# Altium footprint library WE-OLLT_ETD34_L39.6W43.18H30.48_PAD1.6.PcbLib: 1 footprints
Each footprint in its own frame and in the unit in brackets; x right, y up, seen from the top. Pads: shape width x height; smd on the part's side, far side on the other; paste and mask are expansions set on the pad; w line width, h text height; cw(c..) or ccw(c..) is an arc to the next point about the centre after c.
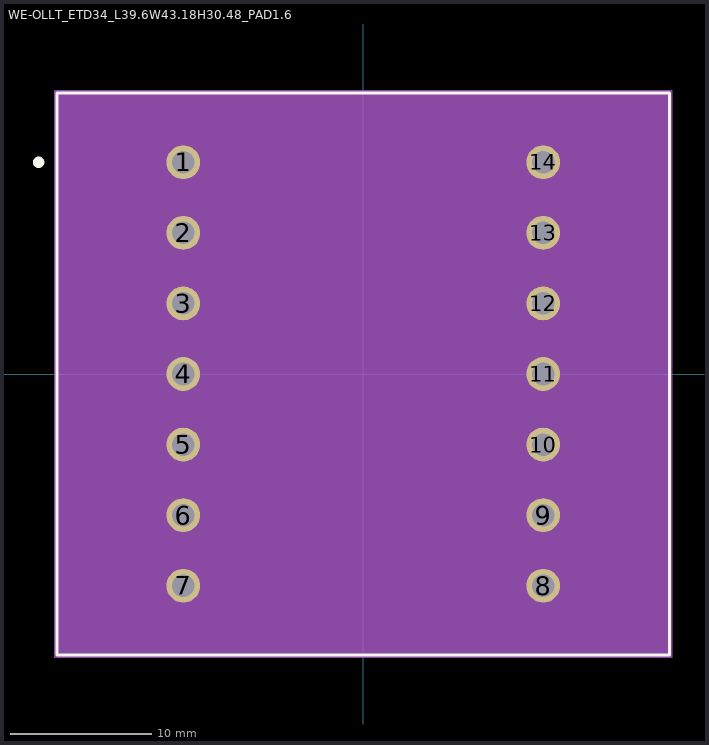
[diagram p0: the footprint, top view; thin cyan lines are the x and y axes]

## WE-OLLT_ETD34_L39.6W43.18H30.48_PAD1.6 [mm]
pads (14):
  round 2.4 hole 1.6 mask+0.102: 1(-12.75,15) 2(-12.75,10) 3(-12.75,5) 4(-12.75,0) 5(-12.75,-5) 6(-12.75,-10) 7(-12.75,-15) 8(12.75,-15) 9(12.75,-10) 10(12.75,-5) 11(12.75,0) 12(12.75,5) 13(12.75,10) 14(12.75,15)
Top Overlay:
  circle w0.4: c-23,15 r0.2
  lines w0.2: -21.69,-19.9 -21.69,19.9 21.69,19.9 21.69,-19.9 -21.69,-19.9
Assembly Top:
  circle w0.6: c-15.5,15 r0.3
  lines w0.1: -21.59,-19.8 21.59,-19.8 21.59,19.8 -21.59,19.8 -21.59,-19.8
Courtyard Top:
  region: 21.89,-20.1 -21.89,-20.1 -21.89,20.1 21.89,20.1
3D body "step_temp.STEP": height 30.48, standoff -4.19, extent -21.717,-19.546 21.463,20.054